# EAGLE library part 61300815721 (library Board-to-Board (rev18a))
WR-PHD 2.54mm Socket Header Bottom Entry, 8 Pins =>Code : Con_BTB_SHD_2.54_1_THT_61300815721 <http://katalog.we-online.de/media/images/eican/Con_BTB_SHD_2.54_1_THT_6130xx15721_pf2.jpg> Details see: http://katalog.we-online.de/en/em/613_0xx_157_21 Created 2014-05-30, Karrer Zheng 2014 (C) Würth Elektronik
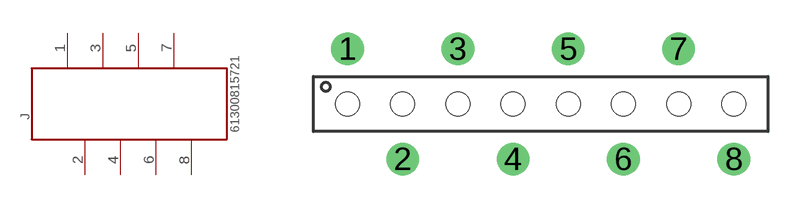
[diagram p149: symbol with the pads of 61300815721; footprint 61300815721]

Designator prefix J

## 61300815721  [61300815721]
1  8  pas
2  7  pas
3  6  pas
4  5  pas
5  4  pas
6  3  pas
7  2  pas
8  1  pas

## Footprint 61300815721 (pad centres in mm)
WR-PHD 2.54mm Socket Header Bottom Entry, 8 Pins
drill 1: 1 -8.89,2.54; 2 -6.35,-2.54; 3 -3.81,2.54; 4 -1.27,-2.54; 5 1.27,2.54; 6 3.81,-2.54; 7 6.35,2.54; 8 8.89,-2.54
hole 1.1 at -8.89,0
hole 1.1 at -6.35,0
hole 1.1 at -3.81,0
hole 1.1 at -1.27,0
hole 1.1 at 1.27,0
hole 1.1 at 3.81,0
hole 1.1 at 6.35,0
hole 1.1 at 8.89,0